# EAGLE library part 690367182672 (library Wuerth_Elektronik_eiCan_MiniModule_Connectors_v1.2)
WR-MM Female Connector without Latch and without Polarization, 26 Pins
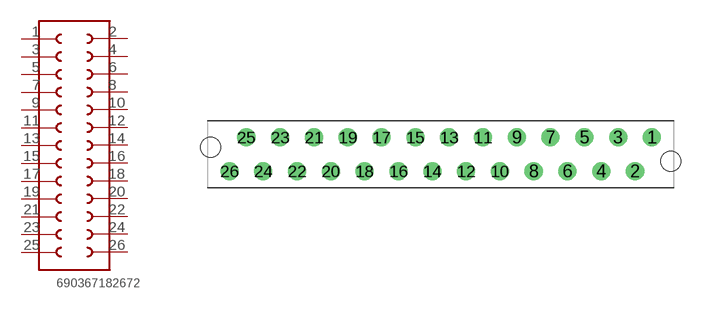
[diagram p11: symbol with the pads of 690367182672; footprint 690367182672]

Designator prefix K

## 690367182672  [690367182672]
1  1  pas
2  26  pas
3  2  pas
4  25  pas
5  3  pas
6  24  pas
7  4  pas
8  23  pas
9  5  pas
10  22  pas
11  6  pas
12  21  pas
13  7  pas
14  20  pas
15  8  pas
16  19  pas
17  9  pas
18  18  pas
19  10  pas
20  17  pas
21  11  pas
22  16  pas
23  12  pas
24  15  pas
25  13  pas
26  14  pas

## Footprint 690367182672 (pad centres in mm)
WR-MM Female Connector without Latch and without Polarization, 26 Pins
drill 0.85 round: 1 14.605,1.27; 2 13.335,-1.27; 3 12.065,1.27; 4 10.795,-1.27; 5 9.525,1.27; 6 8.255,-1.27; 7 6.985,1.27; 8 5.715,-1.27; 9 4.445,1.27; 10 3.175,-1.27; 11 1.905,1.27; 12 0.635,-1.27; 13 -0.635,1.27; 14 -1.905,-1.27; 15 -3.175,1.27; 16 -4.445,-1.27; 17 -5.715,1.27; 18 -6.985,-1.27; 19 -8.255,1.27; 20 -9.525,-1.27; 21 -10.795,1.27; 22 -12.065,-1.27; 23 -13.335,1.27; 24 -14.605,-1.27; 25 -15.875,1.27; 26 -17.145,-1.27
hole 1.5 at 16.005,-0.53
hole 1.5 at -18.545,0.53